# EAGLE library part MAX4544 (library ingolia)
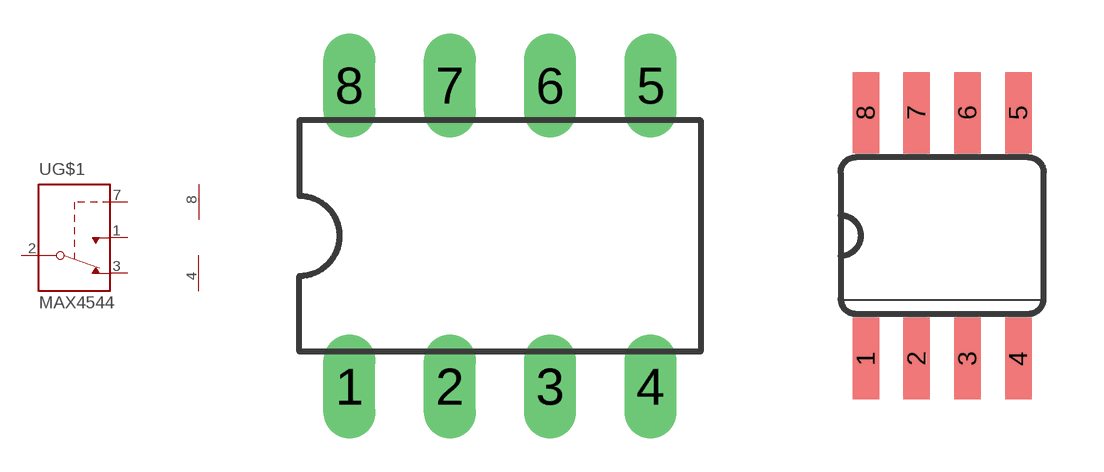
[diagram p2: symbol with the pads of DIL08; footprints DIL08, SO08]

Designator prefix U; gates G$1=ANALOG_SPDT G$2=PWR+-

## MAX4544  [DIL08]
1  G$1:NO
2  G$1:COM
3  G$1:NC
4  G$2:V-  pwr
7  G$1:IN  in
8  G$2:V+  pwr

## MAX4544SMD  [SO08]
Pads as for DIL08

## Footprint DIL08 (pad centres in mm)
drill 0.813 long: 1 -3.81,-3.81; 2 -1.27,-3.81; 3 1.27,-3.81; 4 3.81,-3.81; 5 3.81,3.81; 6 1.27,3.81; 7 -1.27,3.81; 8 -3.81,3.81

## Footprint SO08 (pad centres in mm)
smd 0.66 x 2.032: 1 -1.905,-3.073; 2 -0.635,-3.073; 3 0.635,-3.073; 4 1.905,-3.073; 5 1.905,3.073; 6 0.635,3.073; 7 -0.635,3.073; 8 -1.905,3.073